# Altium schematic symbol library 0603WAF1003T5E.SchLib: 1 symbol
Pins are listed as number, name and electrical type; pins without a type are passive.

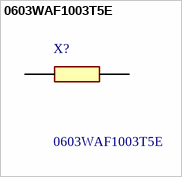
[diagram p0: symbol 0603WAF1003T5E]

## 0603WAF1003T5E
designator X?
Thick Film Resistors - SMD 0603 1/10W 1% 100K T/R-5000; Manufacturer_Name: ROYALOHM; Geometry.Height: 0.55mm; Mouser Part Number: 303-0603WAF1003T5E; Mouser Price/Stock: https://www.mouser.co.uk/ProductDetail/Royalohm/0603WAF1003T5E?qs=e8oIoAS2J1SaaY9MznAX1w%3D%3D; Manufacturer_Part_Number: 0603WAF1003T5E; Datasheet Link: https://www.mouser.ch/datasheet/2/1365/1-3044649.pdf
pins: 1, 2